# EAGLE library part 72R506 (library con-molex)
BEAU Terminal Block 72 R Series
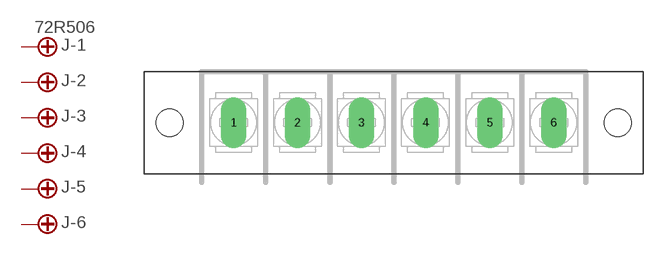
[diagram p126: symbol with the pads of 72R506; footprint 72R506]

Designator prefix J; gates -1=STV -2=ST -3=ST -4=ST -5=ST -6=ST

## 72R506  [72R506]
1  -1:S  pas
2  -2:S  pas
3  -3:S  pas
4  -4:S  pas
5  -5:S  pas
6  -6:S  pas

## Footprint 72R506 (pad centres in mm)
BEAU Terminal Block 72 R Series - 0.375" pitch
drill 1.778 pad 3.81 long: 1 -23.812,0; 2 -14.287,0; 3 -4.763,0; 4 4.763,0; 5 14.287,0; 6 23.812,0
hole 4.064 at -33.337,0
hole 4.064 at 33.337,0